# Altium schematic symbol library lm311dr.SchLib: 2 symbols
Pins are listed as number, name and electrical type; pins without a type are passive.

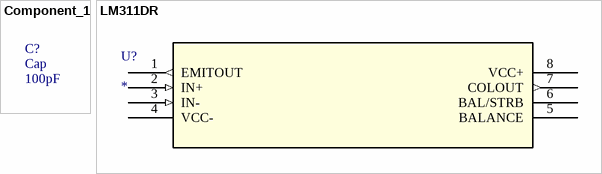
[diagram p0: symbols Component_1 to LM311DR]

## Component_1
designator C?, comment Cap  value 100pF
Capacitor; Published: 8-Jun-2000; LatestRevisionDate: 17-Jul-2002; LatestRevisionNote: Re-released for DXP Platform.; PackageReference: RAD-0.3; Publisher: Altium Limited; PackageDescription: Radial Cap, Thru-Hole; 2 Leads; 0.3 in Pin Spacing
footprint RAD-0.3 (Radial Cap, Thru-Hole; 2 Leads; 0.3 in Pin Spacing)
simulation model CAP (Capacitor)
signal-integrity model Cap

## LM311DR
designator U?
Imported; Manufacturer: Texas Instruments; Manufacturer_Part_Number: LM311DR; Built_By: EMA_UL_Team; C: Copyright (C) 2015 Accelerated Designs. All rights reserved; Vendor: Vendor; RefDes: RefDes; Type: DEV; Value: Value
footprint D8
pins: 1 EMITOUT (out), 2 IN+ (in), 3 IN- (in), 4 VCC- (power), 5 BALANCE, 6 BAL/STRB, 7 COLOUT (out), 8 VCC+ (power)